# Altium footprint library RPSLib_Inductors.PcbLib: 19 footprints (part 2 of 2)
Each footprint in its own frame and in the unit in brackets; x right, y up, seen from the top. Pads: shape width x height; smd on the part's side, far side on the other; paste and mask are expansions set on the pad; w line width, h text height; cw(c..) or ccw(c..) is an arc to the next point about the centre after c.
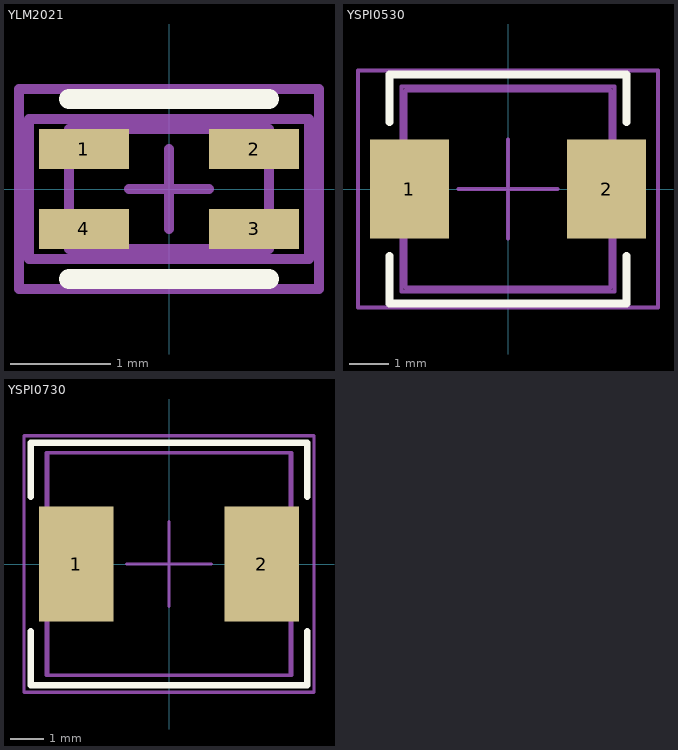
[diagram p1: the footprints below, top view; thin cyan lines are the x and y axes]

## YLM2021 [mm] "SMD Common Mode Choke 2.0x1.2x1.2mm"
height 1.2
pads (4):
  rect 0.9x0.4 smd mask+0.07: 1(-0.85,0.4) 2(0.85,0.4) 3(0.85,-0.4) 4(-0.85,-0.4)
Top Overlay:
  lines w0.2: -1,-0.9 1,-0.9 ; -1,0.9 1,0.9
Mechanical 1:
  lines w0.1: -1.4,-0.7 -1.4,0.7 1.4,0.7 1.4,-0.7 -1.4,-0.7
  text ".Designator" at -1.126,-0.113 h0.5
Mechanical 13:
  lines w0.1: -1,-0.6 -1,0.6 1,0.6 1,-0.6 -1,-0.6
Mechanical 15:
  lines w0.1: -0.4,0 0.4,0 ; 0,-0.4 0,0.4 ; -1.5,-1 1.5,-1 1.5,1 -1.5,1 -1.5,-1
3D body "744231061_Download_STP_WE-CNSW-0805_rev1.stp": height 1.2, standoff 0, extent -1,-0.6 1,0.6

## YSPI0530 [mm] "SMD Power inductor 5.4x5.2x3.0mm"
height 3
pads (2):
  rect 2x2.5 smd mask+0.07: 1(-2.5,0) 2(2.5,0)
Top Overlay:
  lines w0.2: -3,-1.7 -3,-2.9 3,-2.9 3,-1.7 ; -3,1.7 -3,2.9 3,2.9 3,1.7
Mechanical 1:
  lines w0.1: -2.6,-2.5 2.6,-2.5 2.6,2.5 -2.6,2.5 -2.6,-2.5
  text ".Designator" at -1.126,-0.113 h0.5
Mechanical 13:
  lines w0.1: -2.7,-2.6 -2.7,2.6 2.7,2.6 2.7,-2.6 -2.7,-2.6
Mechanical 15:
  lines w0.1: -1.25,0 1.25,0 ; 0,-1.25 0,1.25 ; -3.8,-3 -3.8,3 3.8,3 3.8,-3 -3.8,-3
3D body: height 3, standoff 0, extent -2.7,-2.6 2.7,2.6

## YSPI0730 [mm] "SMD Power inductor 7.3x6.6x3.0mm"
height 3
pads (2):
  rect 2.2x3.4 smd mask+0.07: 1(-2.75,0) 2(2.75,0)
Top Overlay:
  lines w0.2: -4.1,-2 -4.1,-3.6 4.1,-3.6 4.1,-2 ; -4.1,2 -4.1,3.6 4.1,3.6 4.1,2
Mechanical 1:
  lines w0.1: -3.6,-3.3 3.6,-3.3 3.6,3.3 -3.6,3.3 -3.6,-3.3
  text ".Designator" at -1.126,-0.113 h0.5
Mechanical 13:
  lines w0.1: -3.65,-3.3 -3.65,3.3 3.65,3.3 3.65,-3.3 -3.65,-3.3
Mechanical 15:
  lines w0.1: -1.25,0 1.25,0 ; 0,-1.25 0,1.25 ; -4.3,-3.8 -4.3,3.8 4.3,3.8 4.3,-3.8 -4.3,-3.8
3D body: height 3, standoff 0, extent -3.65,-3.3 3.65,3.3